# Altium schematic symbol library GRM033R61A104KE15D.SchLib: 1 symbol
Pins are listed as number, name and electrical type; pins without a type are passive.

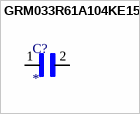
[diagram p0: symbol GRM033R61A104KE15D]

## GRM033R61A104KE15D
designator C?
SMD capacitor X5R(EIA) with capacitance 0.10uF Tol.10%. Rated voltage 10Vdc 85C; MF: Murata Electronics; MP: GRM033R61A104KE15D; Check_prices: https://www.snapeda.com/parts/GRM033R61A104KE15D/Murata%20Electronics%20North%20America/view-part/104758/?ref=eda; Value: *; Availability: Warning; Price: None; Package: 0603 Taiyo Yuden; Purchase-URL: https://pricing.snapeda.com/search/part/GRM033R61A104KE15D/?ref=eda; SnapEDA_Link: https://www.snapeda.com/parts/GRM033R61A104KE15D/Murata%20Electronics%20North%20America/view-part/104758/?ref=snap
footprint CAPC0603X33N
pins: 1, 2